# EAGLE library part HEADER-2X3P (library 4x4x4_led_cube)
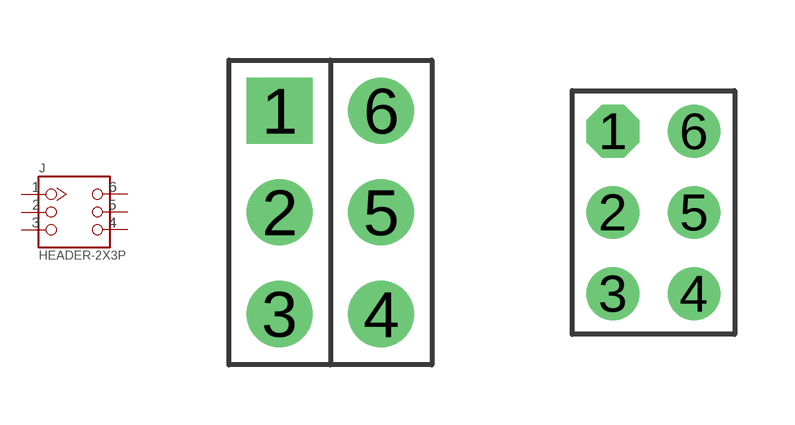
[diagram p0: symbol with the pads of CK_2X3; footprints CK_2X3, CK_2X3_2.0]

Designator prefix J

## HEADER-2X3P2.54  [CK_2X3]
1  1
2  2
3  3
4  4
5  5
6  6

## HEADER-2X3P_2.0  [CK_2X3_2.0]
Pads as for CK_2X3

## HEADER-2X3P_SPAD  [SMD_2X3]
Pads as for CK_2X3

## HEADER-2X3P_THIN  [CK_2X3_THIN]
Pads as for CK_2X3

## Footprint CK_2X3 (pad centres in mm)
drill 0.889 pad 1.651 square: 1 -1.27,2.54
drill 0.889 pad 1.651 round: 2 -1.27,0; 3 -1.27,-2.54; 4 1.27,-2.54; 5 1.27,0; 6 1.27,2.54

## Footprint CK_2X3_2.0 (pad centres in mm)
drill 0.813 pad 1.27 octagon: 1 -1.016,2.032
drill 0.813 pad 1.27 round: 2 -1.016,0; 3 -1.016,-2.032; 4 1.016,-2.032; 5 1.016,0; 6 1.016,2.032

## Footprint SMD_2X3 (pad centres in mm)
smd 1.524 x 1.524: 1 -1.27,2.54; 2 -1.27,0; 3 -1.27,-2.54; 4 1.27,-2.54; 5 1.27,0; 6 1.27,2.54

## Footprint CK_2X3_THIN (pad centres in mm)
drill 0.889 pad 1.524 octagon: 1 -1.27,2.54
drill 0.889 pad 1.524 round: 2 -1.27,0; 3 -1.27,-2.54; 4 1.27,-2.54; 5 1.27,0; 6 1.27,2.54